# Altium schematic symbol library SSQ-106-02-T-S-RA.SchLib: 1 symbol
Pins are listed as number, name and electrical type; pins without a type are passive.

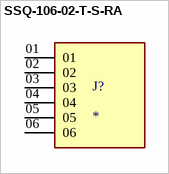
[diagram p0: symbol SSQ-106-02-T-S-RA]

## SSQ-106-02-T-S-RA
designator J?
MF: {'manufacturer': u'Samtec Inc.'}; MP: SSQ-106-02-T-S-RA; Package: None; Price: None; Value: *; Availability: Unavailable
footprint SAMTEC_SSQ-106-02-T-S-RA
pins: 01, 02, 03, 04, 05, 06